# Altium schematic symbol library ADG708CRUZ-REEL7.Schlib: 1 symbol
Pins are listed as number, name and electrical type; pins without a type are passive.

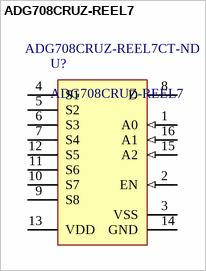
[diagram p0: symbol ADG708CRUZ-REEL7]

## ADG708CRUZ-REEL7
designator U?  Supplier Part Number 1: ADG708CRUZ-REEL7CT-ND
1.8 to 5.5 V / +/-2.5 V, CMOS Low Voltage 3 Ohm, 8-Channel Multiplexer, -40 to 125 degC, 16-pin SOP (RU-16), Reel; Manufacturer: Analog Devices; Supply V Guar Performance: Dual_(+/-2.5V), Single_(+3V), Single_(+5V); t transition (s): 14n; Bandwidth (Hz): 55M; Max Analog Signal Range: Vss to Vdd; Ron (ohms): 3; PackageVersion: Nov-02; ComponentLink1Description: Manufacturer URL; ComponentLink2Description: Datasheet; ComponentLink3Description: Package Specification; Mounting Technology: Surface Mount; ComponentLink3URL: http:/www.analog.com/static/imported-files/packages/36244347913743854010197452789RU16.pdf; DatasheetVersion: Rev. C; ComponentLink1URL: http://www.analog.com/en/index.html; Code_JEDEC: MO-153AB; Packing: Reel; PartNumber: ADG708CRUZ-REEL7; PackageReference: RU-16; PackageDescription: 16-Pin Thin Shrink Small Outline Package, Body 5 x 4.4 mm, Pitch 0.65 mm; ComponentLink2URL: http://www.analog.com/static/imported-files/data_sheets/ADG708_709.pdf; Supplier 1: Digi-Key
footprint ADI-RU-16_M (SOP, 16-Leads, Body 5x4.4mm, Pitch 0.65mm, IPC Low Density)
pins: 1 A0 (in) "Digital Input. Controls the configuration of the switch, as shown in the truth table (see Table 7).", 2 EN (in) "Digital Input. Controls the configuration of the switch, as shown in the truth table (see Table 7).", 3 VSS (power) "Most Negative Power Supply Pin in Dual-Supply Applications. For single-supply applications, it should be tied to GND.", 4 S1 "Source Terminal. Can be an input or output.", 5 S2 "Source Terminal. Can be an input or output.", 6 S3 "Source Terminal. Can be an input or output.", 7 S4 "Source Terminal. Can be an input or output.", 8 D "Drain Terminal. Can be an input or output.", 9 S8 "Source Terminal. Can be an input or output.", 10 S7 "Source Terminal. Can be an input or output.", 11 S6 "Source Terminal. Can be an input or output.", 12 S5 "Source Terminal. Can be an input or output.", 13 VDD (power) "Most Positive Power Supply Pin.", 14 GND (power) "Ground (0 V) Reference.", 15 A2 (in) "Digital Input. Controls the configuration of the switch, as shown in the truth table (see Table 7).", 16 A1 (in) "Digital Input. Controls the configuration of the switch, as shown in the truth table (see Table 7)."